# Altium schematic symbol library UG-2864HSWEG01B.SchLib: 1 symbol
Pins are listed as number, name and electrical type; pins without a type are passive.

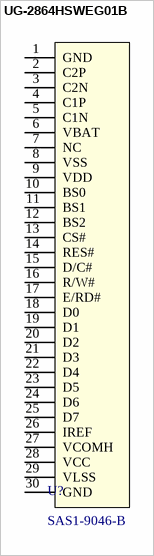
[diagram p0: symbol UG-2864HSWEG01B]

## UG-2864HSWEG01B
designator U?, comment SAS1-9046-B
VDD - VSS = 1.65V to 3.3V, Ta = 25°C
pins: 1 GND (power), 2 C2P, 3 C2N, 4 C1P, 5 C1N, 6 VBAT (power), 7 NC, 8 VSS (power), 9 VDD (power), 10 BS0, 11 BS1, 12 BS2, 13 CS#, 14 RES#, 15 D/C#, 16 R/W#, 17 E/RD#, 18 D0, 19 D1, 20 D2, 21 D3, 22 D4, 23 D5, 24 D6, 25 D7, 26 IREF, 27 VCOMH, 28 VCC (power), 29 VLSS (power), 30 GND (power)